# EAGLE library part TPS22810 (library EXCISS)
TPS22810 18V, 3A, 79mΩ Load Switch with Adjustable Rise Time, Adj. Quick Output Discharge, & Thermal Shutdown Links Datasheet <http://www.ti.com/lit/gpn/tps22810> Product website <http://www.ti.com/product/tps22810>
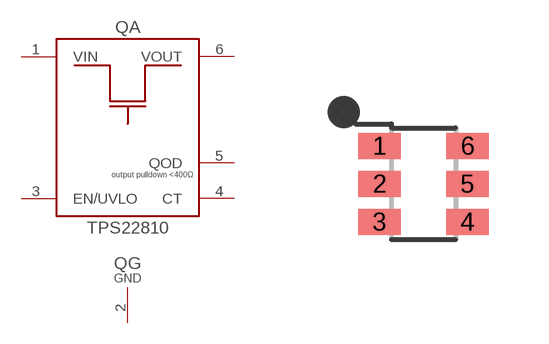
[diagram p23: symbol with the pads of SOT23-6_DBV; footprint SOT23-6_DBV]

Designator prefix Q; gates A=TPS22810 G=POWER_GND

## TPS22810DBV (OC_MOUSER: 595-TPS22810DBV)  [SOT23-6_DBV]
1  A:VIN  pwr
2  G:GND  pwr
3  A:EN/UVLO  in
4  A:CT  out
5  A:QOD  out
6  A:VOUT  out

## Footprint SOT23-6_DBV (pad centres in mm)
smd 1.06 x 0.65: 1 -1.1,0.95; 2 -1.1,0; 3 -1.1,-0.95; 4 1.1,-0.95; 5 1.1,0; 6 1.1,0.95